# Altium footprint library PcbLib1.PcbLib: 30 footprints (part 1 of 2)
Each footprint in its own frame and in the unit in brackets; x right, y up, seen from the top. Pads: shape width x height; smd on the part's side, far side on the other; paste and mask are expansions set on the pad; w line width, h text height; cw(c..) or ccw(c..) is an arc to the next point about the centre after c.
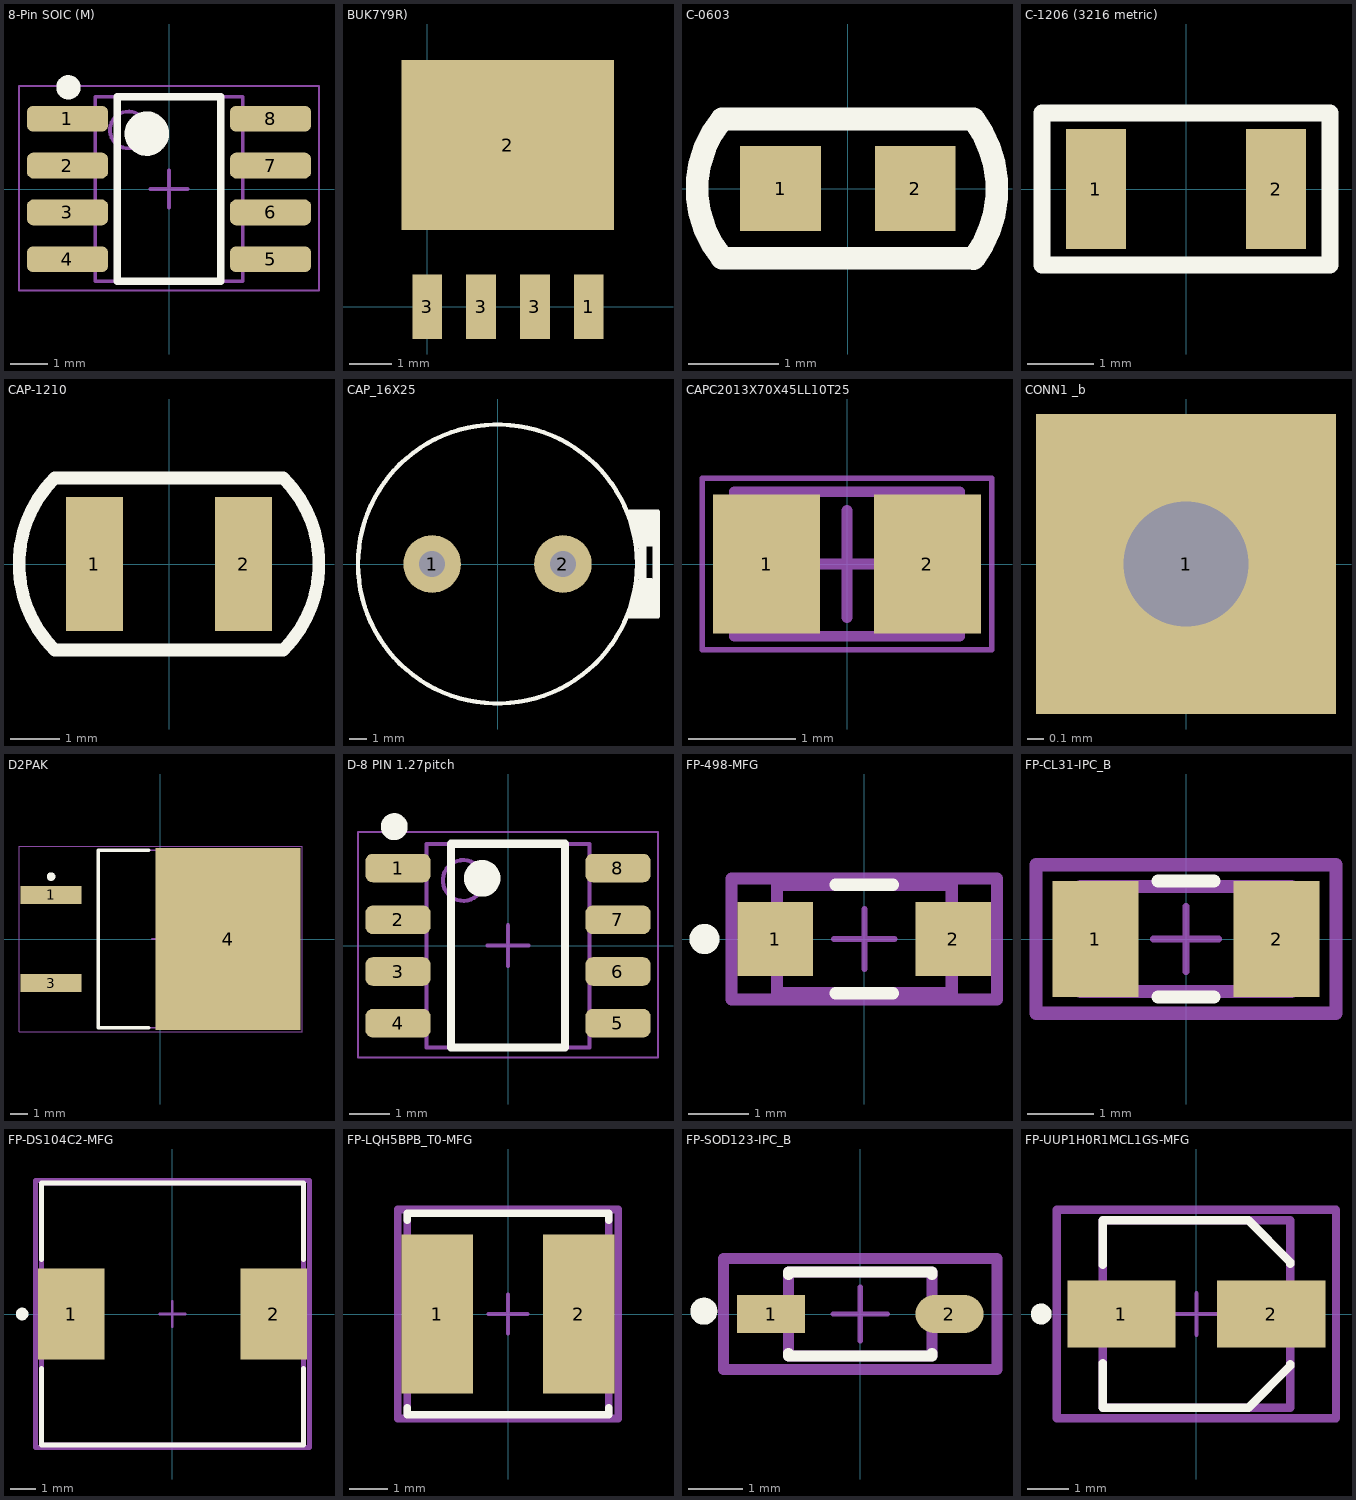
[diagram p0: the footprints below, top view; thin cyan lines are the x and y axes]

## 8-Pin SOIC (M) [mm] "Pitch 1.27mm"
height 1.1
pads (8):
  rrect50% 2.2x0.7 smd: 1(-2.75,1.905) 2(-2.75,0.635) 3(-2.75,-0.635) 4(-2.75,-1.905) 5(2.75,-1.905) 6(2.75,-0.635) 7(2.75,0.635) 8(2.75,1.905)
Top Overlay:
  circle w0.35: c-2.725,2.755 r0.155
  circle w0.6: c-0.6,1.5 r0.3
  lines w0.2: -1.397,-2.5 -1.397,2.5 1.397,2.5 1.397,-2.5 -1.397,-2.5
Mechanical 13:
  circle w0.1: c-1.1,1.6 r0.5
  lines w0.1: -2,-2.5 -2,2.5 2,2.5 2,-2.5 -2,-2.5
Mechanical 15:
  lines w0.05: -4.064,-2.75 -4.064,2.794 4.064,2.794 4.064,-2.75 -4.064,-2.75
  lines w0.1: -0.5,0 0.5,0 ; 0,-0.5 0,0.5
3D body: height 1.1, standoff 0.1, extent -2,-2.5 2,2.5

## BUK7Y9R) [mm] "MOS FET"
height 1.1
pads (5):
  rect 0.7x1.524 smd: 1(3.81,0) 3(0,0) 3(1.27,0) 3(2.54,0)
  rect 5x4 smd: 2(1.9,3.81)

## C-0603 [mm] "Capacitors 0603"
height 0.6
pads (2):
  rect 0.9x0.95 smd: 1(-0.75,0) 2(0.75,0)
Top Overlay:
  lines w0.254: 1.4,-0.78 ccw(c0.375,-0.005) 1.4,0.77 ; 1.4,-0.775 -1.4,-0.775 cw(c-0.467,0) -1.4,0.775 1.4,0.775
3D body "CAP0603.STEP": height 0.86, standoff 0, extent -0.8,-0.4 0.8,0.4

## C-1206 (3216 metric) [mm]
height 0.6
pads (2):
  rect 0.9x1.8 smd: 1(-1.35,0) 2(1.35,0)
Top Overlay:
  lines w0.254: -2.159,-1.143 2.159,-1.143 2.159,1.143 -2.159,1.143 -2.159,-1.143
3D body "C-1206.STEP": height 1.77, standoff 0.03, extent -1.6,-0.85 1.6,0.85

## CAP-1210 [mm] "Capacitors, SMD, 1210"
height 1.4
pads (2):
  rect 1.15x2.7 smd: 1(-1.5,0) 2(1.5,0)
Top Overlay:
  lines w0.254: -2.3,-1.73 cw(c-0.57,0) -2.3,1.73 2.3,1.73 cw(c0.57,0) 2.3,-1.73 -2.3,-1.73
3D body "CAP1210.STEP": height 1.3, standoff 0, extent -1.6,-1.25 1.6,1.25

## CAP_16X25 [mm] "Polar Capacitors"
height 25
pads (2):
  round 3.302 hole 1.5: 1(-3.75,0) 2(3.75,0)
Top Overlay:
  circle w0.254: c0,0 r8
  lines w0.2: 8.4,1.1 8.9,1.1 9,1 ; 8.8,-2.8 8.8,-0.9 8.5,-0.9 ; 8.5,-2.9 8.5,-0.9 ; 8.5,-2.9 8.4,-3 8.5,-2.9 ; 8.5,-2.9 8.6,-2.9 8.7,-3 8.7,-1.1 8.5,-0.9
  lines w0.254: 7.416,-3 9.2,-3 9.2,3 7.416,3 ; 7.6,-3 7.6,-2.6 ; 7.6,2.6 7.6,3 ; 7.8,-3 7.8,-2 ; 7.8,2 7.8,3 ; 8,-3 8,-1 ; 8,1 8,3 ; 8.2,-3 8.2,3 ; 8.4,-3 8.4,3 ; 8.6,1.2 8.6,3 ; 8.8,1.2 8.8,3 ; 9,-3 9,3
3D body "CAPPR750-1600X2500.STEP": height 25.01, standoff -2.7, extent -8,-8 7.941,8

## CAPC2013X70X45LL10T25 [mm] "Chip Capacitor, 2-Leads, Body 2.00x1.25mm, IPC High Density"
height 0.7
pads (2):
  rect 1x1.3 smd: 1(-0.75,0) 2(0.75,0)
Mechanical 13:
  lines w0.1: -1.05,-0.675 -1.05,0.675 1.05,0.675 1.05,-0.675 -1.05,-0.675
Mechanical 15:
  lines w0.05: -1.35,-0.8 -1.35,0.8 1.35,0.8 1.35,-0.8 -1.35,-0.8
  lines w0.1: -0.5,0 0.5,0 ; 0,-0.5 0,0.5
3D body: height 0.7, standoff 0, extent -0.6,-0.675 0.6,0.675
3D body: height 0.7, standoff 0, extent -1.05,-0.675 -0.6,0.675
3D body: height 0.7, standoff 0, extent 0.6,-0.675 1.05,0.675

## CONN1 _b [mm]
pads (1):
  rect 1.8x1.8 hole 0.75: 1(0,0)

## D2PAK [mm] "DPAK, 3-Leads, Body 10.24x9.35mm, Pitch 2.54mm"
height 4.572
pads (3):
  rect 3.504x1.016 smd: 1(-6.313,2.54) 3(-6.313,-2.54)
  rect 8.38x10.49 smd: 4(3.9,0)
Top Overlay:
  circle w0.25: c-6.313,3.598 r0.125
  lines w0.2: -0.69,-5.12 -3.6,-5.12 -3.6,5.12 -0.69,5.12
Mechanical 13:
  lines w0.1: -3.6,-5.12 -3.6,5.12 5.75,5.12 5.75,-5.12 -3.6,-5.12
Mechanical 15:
  lines w0.05: -8.164,-5.345 -8.164,5.345 8.189,5.345 8.189,-5.345 -8.164,-5.345
  lines w0.1: -0.5,0 0.5,0 ; 0,-0.5 0,0.5
3D body "DPAK254P1420X475-3L.step": height 4.75, standoff 0, extent -6.113,-5.125 8.086,5.125

## D-8 PIN 1.27pitch [mm] "Pitch 1.27mm"
height 1.1
pads (8):
  rrect50% 1.6x0.7 smd: 1(-2.7,1.905) 2(-2.7,0.635) 3(-2.7,-0.635) 4(-2.7,-1.905) 5(2.7,-1.905) 6(2.7,-0.635) 7(2.7,0.635) 8(2.7,1.905)
Top Overlay:
  circle w0.35: c-2.794,2.921 r0.155
  circle w0.6: c-0.635,1.651 r0.15
  lines w0.2: -1.397,-2.5 -1.397,2.5 1.397,2.5 1.397,-2.5 -1.397,-2.5
Mechanical 13:
  circle w0.1: c-1.1,1.6 r0.5
  lines w0.1: -2,-2.5 -2,2.5 2,2.5 2,-2.5 -2,-2.5
Mechanical 15:
  lines w0.05: -3.683,-2.75 -3.683,2.794 3.683,2.794 3.683,-2.75 -3.683,-2.75
  lines w0.1: -0.5,0 0.5,0 ; 0,-0.5 0,0.5
3D body: height 1.1, standoff 0.1, extent -2,-2.5 2,2.5

## FP-498-MFG [mm]
pads (2):
  rect 1.25x1.22 smd paste+0 mask+0: 1(-1.475,0) 2(1.475,0)
Top Overlay:
  circle w0.25: c-2.65,0 r0.125
  lines w0.2: -0.475,-0.9 0.475,-0.9 ; -0.475,0.9 0.475,0.9
Mechanical 5:
  lines w0.2: -2.2,-1 -2.2,1 2.2,1 2.2,-1 -2.2,-1
  text ".Designator" at 0,-0.001 h1
Mechanical 13:
  lines w0.2: -1.45,-0.9 -1.45,0.9 1.45,0.9 1.45,-0.9 -1.45,-0.9
Mechanical 15:
  lines w0.2: -2.2,-1 -2.2,1 2.2,1 2.2,-1 -2.2,-1
Mechanical 16:
  lines w0.1: -0.5,0 0.5,0 ; 0,-0.5 0,0.5
3D body "Diode_ON_Semiconductor_MBR2H200SFT1G_eec.STEP": height 0.25, standoff 0, extent -2.2,-1 2.2,1

## FP-CL31-IPC_B [mm]
pads (2):
  rect 1.305x1.758 smd paste+0 mask+0: 1(-1.376,0) 2(1.376,0)
Top Overlay:
  lines w0.2: -0.424,-0.879 0.424,-0.879 ; -0.424,0.879 0.424,0.879
Mechanical 5:
  lines w0.2: -2.279,-1.129 2.279,-1.129 2.279,1.129 -2.279,1.129 -2.279,-1.129
  text ".Designator" at 0,0.188 h1
Mechanical 13:
  lines w0.2: -1.6,-0.8 1.6,-0.8 1.6,0.8 -1.6,0.8 -1.6,-0.8
Mechanical 15:
  lines w0.2: -2.279,-1.129 2.279,-1.129 2.279,1.129 -2.279,1.129 -2.279,-1.129
Mechanical 16:
  lines w0.1: -0.5,0 0.5,0 ; 0,-0.5 0,0.5
3D body "Cap_Samsung_CL31B105KOFNNNE_eec.STEP": height 0.25, standoff 0, extent -2.279,-1.129 2.279,1.129

## FP-DS104C2-MFG [mm]
pads (2):
  rect 2.65x3.6 smd paste+0 mask+0: 1(-4.025,0) 2(4.025,0)
Top Overlay:
  circle w0.25: c-5.975,0 r0.125
  lines w0.2: -5.2,-2.175 -5.2,-5.2 5.2,-5.2 5.2,-2.175 ; -5.2,2.175 -5.2,5.2 5.2,5.2 5.2,2.175
Mechanical 5:
  lines w0.2: -5.45,-5.3 -5.45,5.3 5.45,5.3 5.45,-5.3 -5.45,-5.3
  text ".Designator" at 0,0.188 h1
Mechanical 13:
  lines w0.2: -5.2,-5.2 -5.2,5.2 5.2,5.2 5.2,-5.2 -5.2,-5.2
Mechanical 15:
  lines w0.2: -5.45,-5.3 -5.45,5.3 5.45,5.3 5.45,-5.3 -5.45,-5.3
Mechanical 16:
  lines w0.1: -0.5,0 0.5,0 ; 0,-0.5 0,0.5
3D body "Ind_Murata_#B952AS-H-100M=P3_eec.STEP": height 0.25, standoff 0, extent -5.45,-5.3 5.45,5.3

## FP-LQH5BPB_T0-MFG [mm]
pads (2):
  rect 1.85x4.1 smd paste+0: 1(-1.825,0) 2(1.825,0)
Top Overlay:
  lines w0.2: -2.6,-2.425 -2.6,-2.6 2.6,-2.6 2.6,-2.425 ; -2.6,2.425 -2.6,2.6 2.6,2.6 2.6,2.425
Mechanical 5:
  lines w0.2: -2.85,-2.7 -2.85,2.7 2.85,2.7 2.85,-2.7 -2.85,-2.7
  text ".Designator" at 0,0.188 h1
Mechanical 13:
  lines w0.2: -2.6,-2.6 -2.6,2.6 2.6,2.6 2.6,-2.6 -2.6,-2.6
Mechanical 15:
  lines w0.2: -2.85,-2.7 -2.85,2.7 2.85,2.7 2.85,-2.7 -2.85,-2.7
Mechanical 16:
  lines w0.1: -0.5,0 0.5,0 ; 0,-0.5 0,0.5
3D body "Ind_Murata_LQH5BPB2R2NT0L_eec.STEP": height 0.25, standoff 0, extent -2.85,-2.7 2.85,2.7

## FP-SOD123-IPC_B [mm]
pads (2):
  rect 1.257x0.702 smd paste+0 mask+0: 1(-1.65,0)
  rrect100% 1.257x0.702 smd paste+0 mask+0: 2(1.65,0)
Top Overlay:
  circle w0.25: c-2.895,0.051 r0.125
  lines w0.2: -1.325,-0.726 -1.325,-0.775 1.325,-0.775 1.325,-0.726 ; -1.325,0.726 -1.325,0.775 1.325,0.775 1.325,0.726
Mechanical 5:
  lines w0.2: -2.529,-1.025 -2.529,1.025 2.529,1.025 2.529,-1.025 -2.529,-1.025
  text ".Designator" at 0,0.188 h1
Mechanical 13:
  lines w0.2: -1.325,-0.775 -1.325,0.775 1.325,0.775 1.325,-0.775 -1.325,-0.775
Mechanical 15:
  lines w0.2: -2.529,-1.025 -2.529,1.025 2.529,1.025 2.529,-1.025 -2.529,-1.025
Mechanical 16:
  lines w0.1: -0.5,0 0.5,0 ; 0,-0.5 0,0.5
3D body "Diode_Diodes_Inc_B0530W-7-F_eec.STEP": height 0.25, standoff 0, extent -2.529,-1.025 2.529,1.025

## FP-UUP1H0R1MCL1GS-MFG [mm]
pads (2):
  rect 2.6x1.6 smd paste+0 mask+0: 1(-1.8,0) 2(1.8,0)
Top Overlay:
  circle w0.25: c-3.725,0 r0.125
  lines w0.2: -2.25,-1.175 -2.25,-2.25 1.25,-2.25 2.25,-1.25 2.25,-1.2 ; -2.25,1.175 -2.25,2.25 1.25,2.25 2.25,1.25 2.25,1.2
Mechanical 5:
  lines w0.2: -3.35,-2.5 -3.35,2.5 3.35,2.5 3.35,-2.5 -3.35,-2.5
  text ".Designator" at 0,0.188 h1
Mechanical 13:
  lines w0.2: -2.25,-2.25 -2.25,2.25 2.25,2.25 2.25,-2.25 -2.25,-2.25
Mechanical 15:
  lines w0.2: -3.35,-2.5 -3.35,2.5 3.35,2.5 3.35,-2.5 -3.35,-2.5
Mechanical 16:
  lines w0.1: -0.5,0 0.5,0 ; 0,-0.5 0,0.5
3D body "Cap_Nichicon_UUP1H0R1MCL1GS_eec.STEP": height 0.25, standoff 0, extent -3.35,-2.5 3.35,2.5